# Altium footprint library Copy of Footprints.PcbLib: 1 footprints
Each footprint in its own frame and in the unit in brackets; x right, y up, seen from the top. Pads: shape width x height; smd on the part's side, far side on the other; paste and mask are expansions set on the pad; w line width, h text height; cw(c..) or ccw(c..) is an arc to the next point about the centre after c.
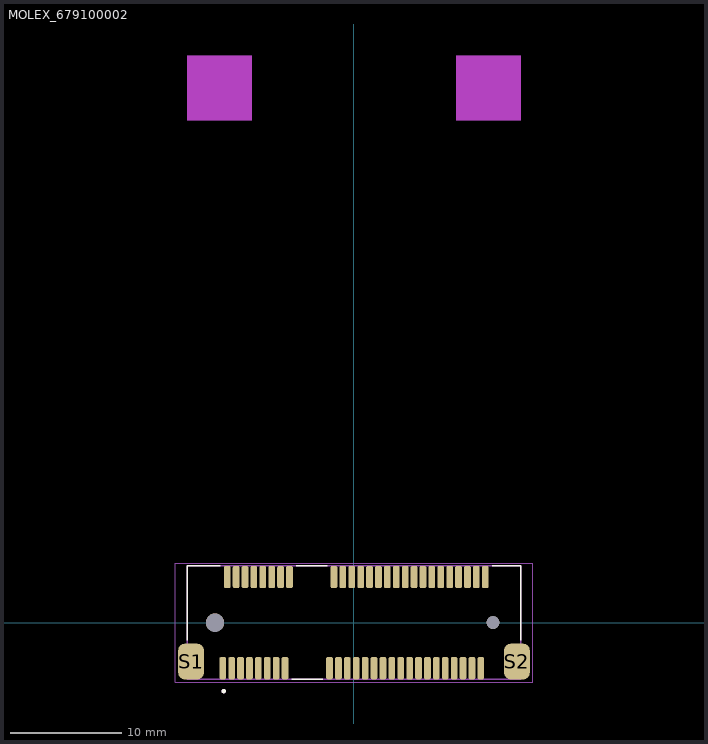
[diagram p0: the footprint, top view; thin cyan lines are the x and y axes]

## MOLEX_679100002 [mm]
pads (56):
  rrect50% 0.6x2 smd: 1(-11.8,-4.1) 2(-11.4,4.1) 3(-11,-4.1) 4(-10.6,4.1) 5(-10.2,-4.1) 6(-9.8,4.1) 7(-9.4,-4.1) 8(-9,4.1) 9(-8.6,-4.1) 10(-8.2,4.1) 11(-7.8,-4.1) 12(-7.4,4.1) 13(-7,-4.1) 14(-6.6,4.1) 15(-6.2,-4.1) 16(-5.8,4.1) 17(-2.2,-4.1) 18(-1.8,4.1) 19(-1.4,-4.1) 20(-1,4.1) 21(-0.6,-4.1) 22(-0.2,4.1) 23(0.2,-4.1) 24(0.6,4.1) 25(1,-4.1) 26(1.4,4.1) 27(1.8,-4.1) 28(2.2,4.1) 29(2.6,-4.1) 30(3,4.1) 31(3.4,-4.1) 32(3.8,4.1) 33(4.2,-4.1) 34(4.6,4.1) 35(5,-4.1) 36(5.4,4.1) 37(5.8,-4.1) 38(6.2,4.1) 39(6.6,-4.1) 40(7,4.1) 41(7.4,-4.1) 42(7.8,4.1) 43(8.2,-4.1) 44(8.6,4.1) 45(9,-4.1) 46(9.4,4.1) 47(9.8,-4.1) 48(10.2,4.1) 49(10.6,-4.1) 50(11,4.1) 51(11.4,-4.1) 52(11.8,4.1)
  rrect50% 2.3x3.2 smd: S1(-14.65,-3.5) S2(14.65,-3.5)
  round 1.65 hole 1.65 unplated: ""(-12.5,0)
  round 1.15 hole 1.15 unplated: ""(12.5,0)
Top Overlay:
  circle w0.2: c-11.712,-6.156 r0.1
  lines w0.127: -15,-1.58 -15,5.1 -12.02,5.1 ; -5.58,-5.1 -2.82,-5.1 ; -5.18,5.1 -2.42,5.1 ; 12.42,5.1 15,5.1 15,-1.58
Keep-Out Layer:
  region: -9.2,45.15 -15,45.15 -15,50.95 -9.2,50.95
  region: 15,45.15 9.2,45.15 9.2,50.95 15,50.95
Top Assembly (Mech13):
  circle w0.2: c-11.712,-6.156 r0.1
  lines w0.127: -15,-5.1 -15,5.1 15,5.1 15,-5.1 -15,-5.1
Top Courtyard:
  region: -9.2,45.15 -15,45.15 -15,50.95 -9.2,50.95
  region: 15,45.15 9.2,45.15 9.2,50.95 15,50.95
  lines w0.05: -16.05,-5.35 -16.05,5.35 16.05,5.35 16.05,-5.35 -16.05,-5.35
3D body: height 0.25, standoff 0, extent -13.589,11.176 6.985,16.383
3D body: height 0.25, standoff 0, extent -20.828,6.477 1.143,16.383
3D body: height 0.25, standoff 0, extent -21.59,7.62 11.049,15.24
3D body: height 0.25, standoff 0, extent 19.558,1.778 29.083,16.002